# EAGLE library part _CON_2X10_H_TH_(LS2-RA2) (library SamacSys_Parts)
2.00 mm Locking Hermaphroditic Terminal/Socket Strip Source: Datasheet <http://suddendocs.samtec.com/prints/ls2-1xx-xx-xx-d-xxx-x-mkt.pdf>
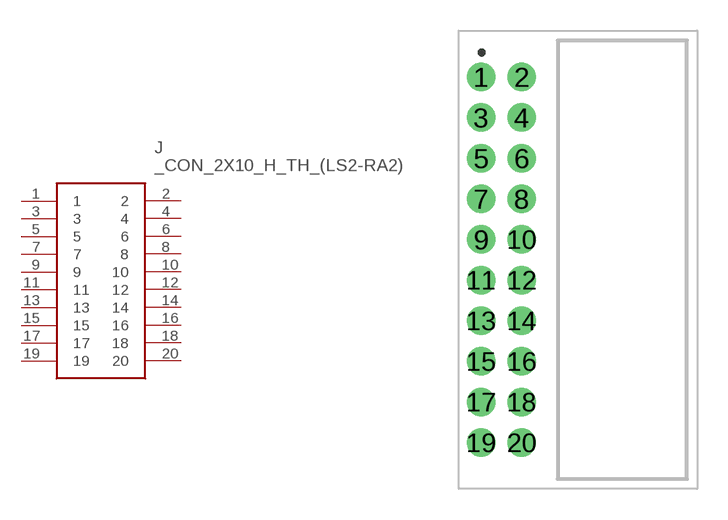
[diagram p41: symbol with the pads of SHDRRA20W50P200_2X10_2157X635X; footprint SHDRRA20W50P200_2X10_2157X635X]

Designator prefix J

## _CON_2X10_H_TH_(LS2-RA2) (DESCRIPTION: 2.00 mm Locking Hermaphroditic Terminal/Socket Strip; HEIGHT: 5.27mm; MANUFACTURER_NAME: SAMTEC; MANUFACTURER_PART_NUMBER: LS2-110-01-F-D-RA2)  [SHDRRA20W50P200_2X10_2157X635X]
1  1
2  2
3  3
4  4
5  5
6  6
7  7
8  8
9  9
10  10
11  11
12  12
13  13
14  14
15  15
16  16
17  17
18  18
19  19
20  20

## Footprint SHDRRA20W50P200_2X10_2157X635X (pad centres in mm)
LS2-110-01-F-D-RA2
drill 0.9 pad 1.35: 1 0,0; 2 2,0; 3 0,-2; 4 2,-2; 5 0,-4; 6 2,-4; 7 0,-6; 8 2,-6; 9 0,-8; 10 2,-8; 11 0,-10; 12 2,-10; 13 0,-12; 14 2,-12; 15 0,-14; 16 2,-14; 17 0,-16; 18 2,-16; 19 0,-18; 20 2,-18